# EAGLE library part КР572ПВ1 (library 572)
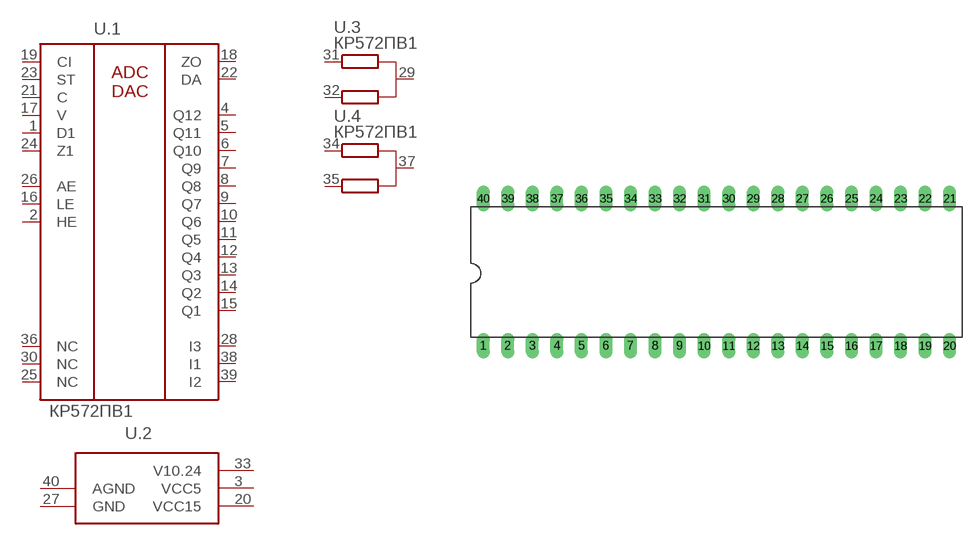
[diagram p0: symbol with the pads of DIL40; footprint DIL40]

Designator prefix -; gates .1=КР572ПВ1 .3=R2 .4=R2 .2=POW

## КР572ПВ1  [DIL40]
1  .1:D1  in
2  .1:HE  in
3  .2:VCC5  pwr
4  .1:Q12
5  .1:Q11
6  .1:Q10
7  .1:Q9
8  .1:Q8
9  .1:Q7
10  .1:Q6
11  .1:Q5
12  .1:Q4
13  .1:Q3
14  .1:Q2
15  .1:Q1
16  .1:LE  in
17  .1:V  in
18  .1:ZO  out
19  .1:CI  in
20  .2:VCC15  pwr
21  .1:C  in
22  .1:DA  out
23  .1:ST  in
24  .1:Z1  in
25  .1:NC
26  .1:AE  in
27  .2:GND  pwr
28  .1:I3  out
29  .3:R2  pas
30  .1:NC
31  .3:R1A  pas
32  .3:R1B  pas
33  .2:V10.24  pwr
34  .4:R1A  pas
35  .4:R1B  pas
36  .1:NC
37  .4:R2  pas
38  .1:I1  out
39  .1:I2  out
40  .2:AGND  pwr

## Footprint DIL40 (pad centres in mm)
Dual In Line Package
drill 0.813 long: 1 -24.13,-7.62; 2 -21.59,-7.62; 3 -19.05,-7.62; 4 -16.51,-7.62; 5 -13.97,-7.62; 6 -11.43,-7.62; 7 -8.89,-7.62; 8 -6.35,-7.62; 9 -3.81,-7.62; 10 -1.27,-7.62; 11 1.27,-7.62; 12 3.81,-7.62; 13 6.35,-7.62; 14 8.89,-7.62; 15 11.43,-7.62; 16 13.97,-7.62; 17 16.51,-7.62; 18 19.05,-7.62; 19 21.59,-7.62; 20 24.13,-7.62; 21 24.13,7.62; 22 21.59,7.62; 23 19.05,7.62; 24 16.51,7.62; 25 13.97,7.62; 26 11.43,7.62; 27 8.89,7.62; 28 6.35,7.62; 29 3.81,7.62; 30 1.27,7.62; 31 -1.27,7.62; 32 -3.81,7.62; 33 -6.35,7.62; 34 -8.89,7.62; 35 -11.43,7.62; 36 -13.97,7.62; 37 -16.51,7.62; 38 -19.05,7.62; 39 -21.59,7.62; 40 -24.13,7.62